# Altium schematic symbol library RT1052_EVK_Mini.SCHLIB: 31 symbols
Pins are listed as number, name and electrical type; pins without a type are passive.

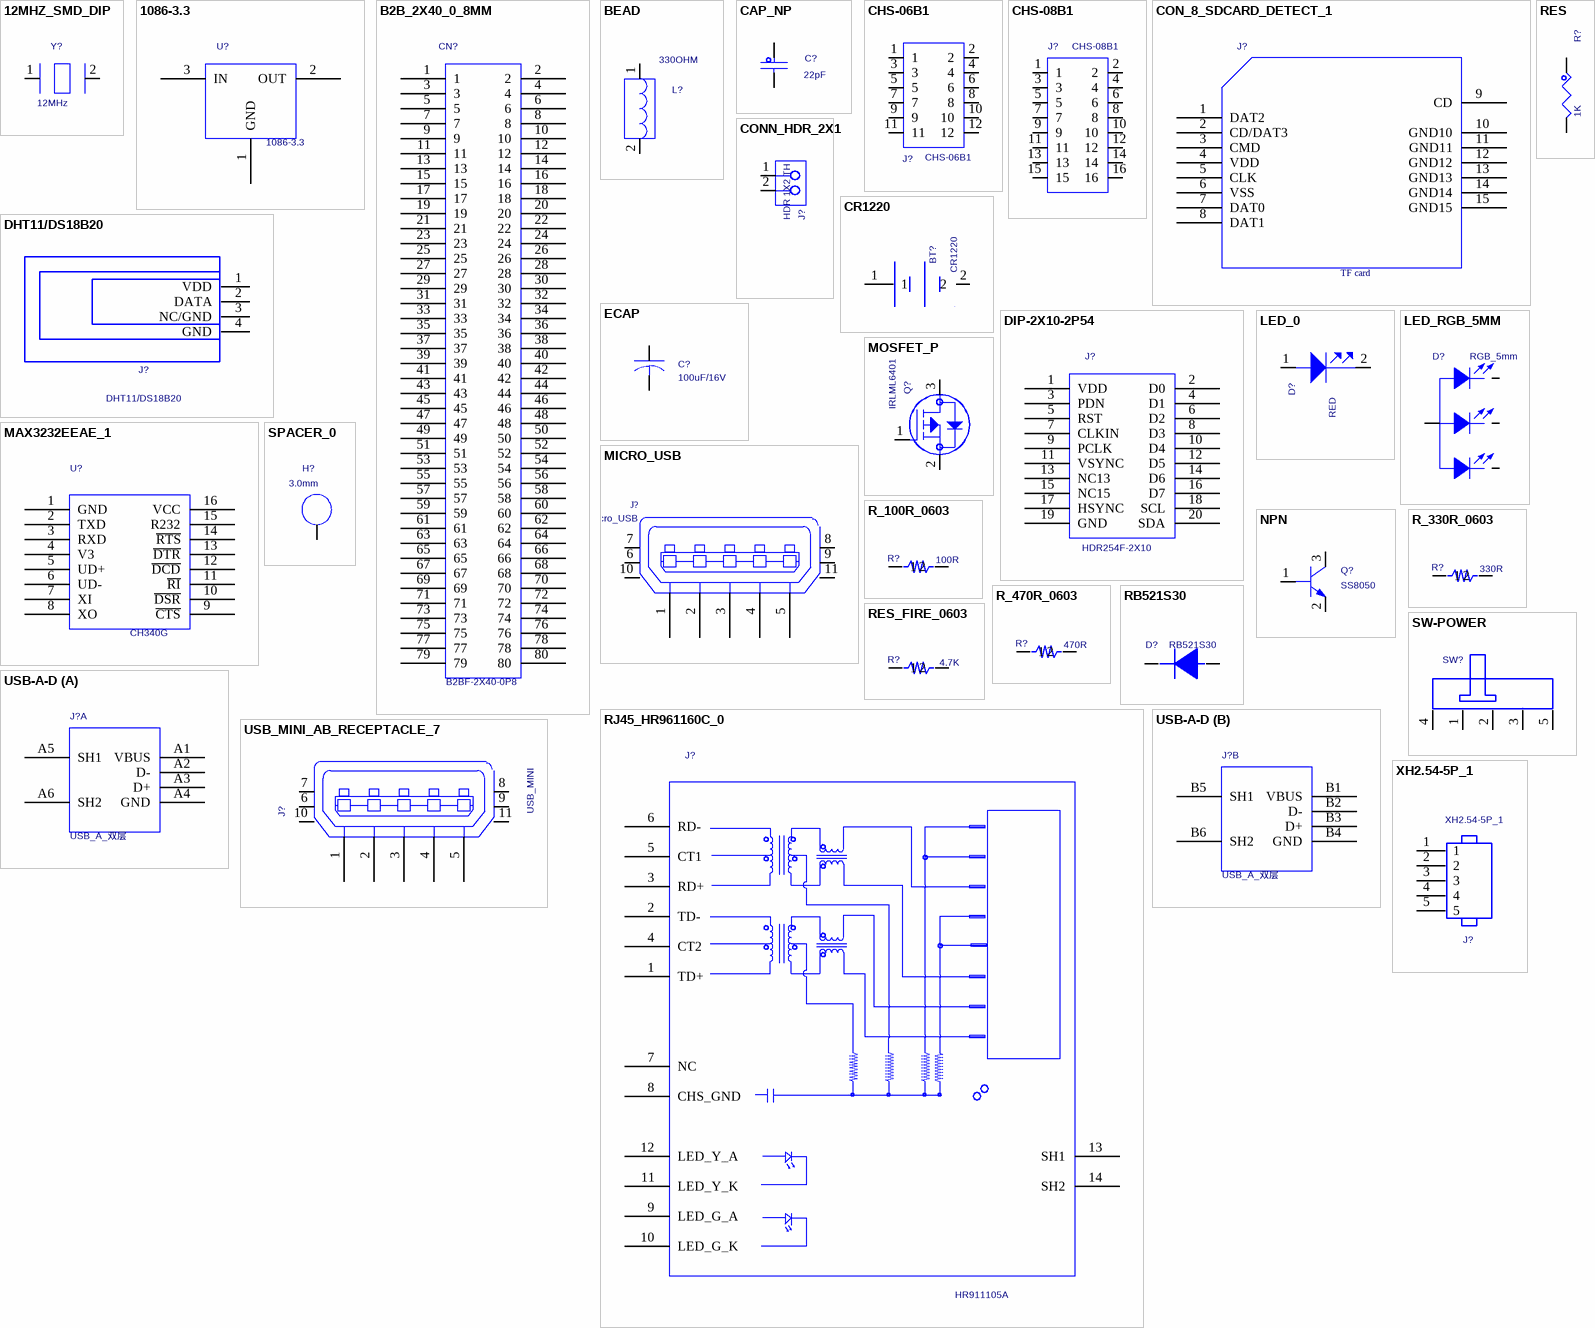
[diagram p0: symbols 12MHZ_SMD_DIP to XH2.54-5P_1]

## 12MHZ_SMD_DIP
designator Y?  value 12MHz  (hidden comment: 12MHZ_SMD_DIP)
PCB DECAL: XTAL_DIP_1; Source_Path: H:\NXP_RT1050\SCH\IMXRT1052_MB.DSN
footprint XTAL_DIP_1
pins: 1, 2

## 1086-3.3
designator U?
PCB DECAL: TO252-2; Source_Path: H:\NXP_RT1050\SCH\SCHLIB\YHSCHLIB.OLB; Value: 1086-3.3
footprint TO252-2
pins: 1 GND, 2 OUT, 3 IN

## B2B_2X40_0_8MM
designator CN?  value B2BF-2X40-0P8  (hidden comment: B2B_2X40_0_8MM)
Source_Path: H:\NXP_RT1050\SCH\SCHLIB\YHSCHLIB.OLB; PCB DECAL: B2BF-2X40-0P8
footprint B2BF-2X40-0P8
pins: 1, 2, 3, 4, 5, 6, 7, 8, 9, 10, 11, 12, 13, 14, 15, 16, 17, 18, 19, 20, 21, 22, 23, 24, 25, 26, 27, 28, 29, 30, 31, 32, 33, 34, 35, 36, 37, 38, 39, 40, 41, 42, 43, 44, 45, 46, 47, 48, 49, 50, 51, 52, 53, 54, 55, 56, 57, 58, 59, 60, 61, 62, 63, 64, 65, 66, 67, 68, 69, 70, 71, 72, 73, 74, 75, 76, 77, 78, 79, 80

## BEAD
designator L?  value 330OHM  (hidden comment: BEAD)
IND FER BEAD 330OHM@100MHZ 1.7A 0603; PART_TYPE: FERRITE\BEAD; PCB DECAL: L0603; TOL: 25%; CAD_APPROVED: Yes; MFG_PN01: MPZ1608S331A; MFG_NAME01: TDK; AGILE_PN: 180-78156; Source_Path: Q:\ORCADCIS\SYMBOLS\FCL_INDUCTOR.OLB; CLASS: DISCRETE; HEIGHT: 0.95MM; ROHS: Yes; Tolerance: 25%
footprint L0603
pins: 1, 2

## CAP_NP
designator C?  value 22pF  (hidden comment: CAP_NP)
CAP CER 0.1UF 10V 10% X5R 0402; PCB DECAL: C0603; FPLIST: CC0402_25,CC0402_HD,0402_CC; CAD_APPROVED: Yes; MFG_PN01: C0402C104K8PAC; MFG_NAME01: KEMET; AGILE_PN: 150-75634; Source_Path: Q:\ORCADCIS\SYMBOLS\FCL_CAPACITOR.OLB; CLASS: DISCRETE; VOLTAGE: 10V; HEIGHT: 0.64MM; ROHS: Yes; Tolerance: 10%
footprint C0603
pins: 1, 2

## CHS-06B1
designator J?
Source_Path: H:\NXP_RT1050\SCH\IMXRT1052_MB.DSN; PCB DECAL: CHS-06B1; Value: CHS-06B1
footprint CHS-06B1
pins: 1, 2, 3, 4, 5, 6, 7, 8, 9, 10, 11, 12

## CHS-08B1
designator J?
Source_Path: H:\NXP_RT1050\SCH\IMXRT1052_MB.DSN; PCB DECAL: CHS-08B1; Value: CHS-08B1
footprint CHS-08B1
pins: 1, 2, 3, 4, 5, 6, 7, 8, 9, 10, 11, 12, 13, 14, 15, 16

## CON_8_SDCARD_DETECT_1
designator J?  value TF card  (hidden comment: CON_8_SDCARD_DETECT_1)
CON 8 SKT SD/MMC PUSH-PUSH RA SMT 1.1MM SP 83H AU; AGILE_PN: 211-80105; MFG_NAME01: ANYTRONIC CORPORATION LIMITED; MFG_PN01: 95060030-14RRF; CAD_APPROVED: Yes; PCB DECAL: TFCARD; Source_Path: H:\NXP_RT1050\SCH\IMXRT1052_MB.DSN; CLASS: IO; ROHS: Yes; HEIGHT: 2.1 MM
footprint TFCARD
pins: 1 DAT2, 2 CD/DAT3, 3 CMD, 4 VDD (power), 5 CLK, 6 VSS (power), 7 DAT0, 8 DAT1, 9 CD, 10 GND10, 11 GND11, 12 GND12, 13 GND13, 14 GND14, 15 GND15

## CONN_HDR_2X1
designator J?  value HDR 1X2 TH  (hidden comment: CONN_HDR_2X1)
HDR 1X2 TH 100MIL SP 339H AU 98L; PCB DECAL: HDR254M-2X1; CAD_APPROVED: YES; MFG_PN01: TSW-102-07-G-S; MFG_NAME01: SAMTEC; AGILE_PN: 210-75439; Source_Path: Q:\ORCADCIS\SYMBOLS\FCL_CONNECTOR.OLB; CLASS: IO; HEIGHT: 8.71 MM; ROHS: Yes
footprint HDR254M-2X1
pins: 1, 2

## CR1220
designator BT?
PCB DECAL: BATERY
footprint BATERY
pins: 1, 2

## DHT11/DS18B20
designator J?
Manufacture 1 P/N: DHT11/DS1302; PCB DECAL: HDR1X4
footprint HDR1X4
pins: 1 VDD, 2 DATA, 3 NC/GND, 4 GND

## DIP-2X10-2P54
designator J?  value HDR254F-2X10  (hidden comment: DIP-2X10-2P54)
Source_Path: H:\NXP_RT1050\SCH\SCHLIB\YHSCHLIB.OLB; PCB DECAL: HDR254F-2X10
footprint HDR254F-2X10
pins: 1 VDD, 2 D0, 3 PDN, 4 D1, 5 RST, 6 D2, 7 CLKIN, 8 D3, 9 PCLK, 10 D4, 11 VSYNC, 12 D5, 13 NC13, 14 D6, 15 NC15, 16 D7, 17 HSYNC, 18 SCL, 19 GND, 20 SDA

## ECAP
designator C?  value 100uF/16V  (hidden comment: ECAP)
PCB DECAL: EC6P3_DIP; Source_Path: D:\01_LSI_PROJECT\C100\00.SMDK俺惯\SCHEMATICS\C100\C100_CPU.OLB
footprint EC6P3_DIP
pins: 1, 2

## LED_0
designator D?  value RED  (hidden comment: LED_0)
LED GRN SGL 25MA 0603; PCB DECAL: LED0603; CAD_APPROVED: Yes; MFG_PN01: KPT-1608SGC; MFG_NAME01: KINGBRIGHT; AGILE_PN: 370-76549; Source_Path: H:\NXP_RT1050\SCH\IMXRT1052_CORE\CORE\IMXRT1052_1207.DSN; CLASS: IC; HEIGHT: 0.85MM; ROHS: Yes
footprint LED0603
pins: 1 ANODE, 2 CATHODE

## LED_RGB_5MM
designator D?  value RGB_5mm  (hidden comment: LED_RGB_5MM)
RGB; PCB DECAL: LED_RGB_5MM
footprint LED_RGB_5MM
pins: 1 G, 2 G, 3 R, 4 R

## MAX3232EEAE_1
designator U?  value CH340G  (hidden comment: MAX3232EEAE_1)
PCB DECAL: SOIC16; Source_Path: H:\NXP_RT1050\SCH\IMXRT1052_MB.DSN
footprint SOIC16
pins: 1 GND, 2 TXD, 3 RXD, 4 V3, 5 UD+, 6 UD-, 7 XI, 8 XO, 9 ~{CTS}, 10 ~{DSR}, 11 ~{RI}, 12 ~{DCD}, 13 ~{DTR}, 14 ~{RTS}, 15 R232, 16 VCC (power)

## MICRO_USB
designator J?
CON 5 USB MICRO_AB RA SKT SMT 0.65MM SP 110H AU; PCB DECAL: MICRO_USB_5S; AGILE_PN: 211-80104; MFG_NAME01: ANYTRONIC CORPORATION LIMITED; MFG_PN01: 23970101#LCP-58LF; Temp_Range: -55&#8451; to 105&#8451;; CAD_APPROVED: Yes; Source_Path: H:\NXP_RT1050\SCH\IMXRT1052_MB_MINI.DSN; CLASS: IO; ROHS: Yes; HEIGHT: 2.8MM; Value: Micro_USB
footprint MICRO_USB_5S
pins: 1 P1, 2 P2, 3 P3, 4 P4, 5 P5, 6 SHLD3, 7 SHLD1, 8 SHLD2, 9 SHLD4, 10 H1, 11 H2

## MOSFET_P
designator Q?  value IRLML6401  (hidden comment: MOSFET_P)
TRAN PMOS PWR 12V 4.3A SOT23; CAD_APPROVED: Yes; MFG_PN01: IRLML6401TRPBF; MFG_NAME01: INTERNATIONAL RECTIFIER; AGILE_PN: 480-77718; Source_Path: Q:\ORCADCIS\SYMBOLS\FCL_SEMICONDUCTOR.OLB; CLASS: IC; HEIGHT: 1.12MM; ROHS: Yes; PCB DECAL: SOT23
footprint SOT23
pins: 1 GATE, 2 SOURCE, 3 DRAIN

## NPN
designator Q?  value SS8050  (hidden comment: NPN)
TRAN NPN GEN 0.5A 45V AEC-Q101 SOT23; AGILE_PN: 480-78842; MFG_NAME01: NEXPERIA; MFG_PN01: BC817,215; CAD_APPROVED: Yes; Source_Path: Q:\ORCADCIS\SYMBOLS\FCL_SEMICONDUCTOR.OLB; CLASS: IC; ROHS: Yes; HEIGHT: 1.1 MM; PCB DECAL: SOT23
footprint SOT23
pins: 1 BASE, 2 EMITTER, 3 COLLECTOR

## R_100R_0603
designator R?  value 100R  (hidden comment: R_100R_0603)
PCB DECAL: R0603
footprint R0603
pins: 1, 2

## R_330R_0603
designator R?  value 330R  (hidden comment: R_330R_0603)
PCB DECAL: R0603
footprint R0603
pins: 1, 2

## R_470R_0603
designator R?  value 470R  (hidden comment: R_470R_0603)
PCB DECAL: R0603
footprint R0603
pins: 1, 2

## RB521S30
designator D?
PCB DECAL: SOD-523; Value: RB521S30
footprint SOD-523
pins: 1 +, 2 -

## RES
designator R?  value 1K  (hidden comment: RES)
RES MF ZERO OHM 1/16W 5% 0402; PCB DECAL: R0603; FPLIST: RC0402_25,RC0402_HD,RC0402_X2,0402_CC; CAD_APPROVED: Yes; MFG_PN01: MCR01MZPJ000; MFG_NAME01: ROHM; AGILE_PN: 470-75394; Source_Path: Q:\ORCADCIS\SYMBOLS\FCL_RESISTOR.OLB; CLASS: DISCRETE; ROHS: Yes; Tolerance: 5%; HEIGHT: 0.45 MM
footprint R0603
pins: 1, 2

## RES_FIRE_0603
designator R?  value 4.7K  (hidden comment: RES_FIRE_0603)
PCB DECAL: R0603
footprint R0603
pins: 1, 2

## RJ45_HR961160C_0
designator J?  value HR911105A  (hidden comment: RJ45_HR961160C_0)
CON 12 RJ45 SHLD RA SM 1.02MM SP 625H --; AGILE_PN: 211-79967; MFG_NAME01: HanRun Electronics Co., Ltd; CAD_APPROVED: Yes; Source_Path: H:\NXP_RT1050\SCH\IMXRT1052_MB.DSN; CLASS: IO; PCB DECAL: RJ45; MFG_PN01: HR961160C; ROHS: Yes; HEIGHT: 15.88 MM
footprint RJ45
pins: 1 TD+, 2 TD-, 3 RD+, 4 CT2, 5 CT1, 6 RD-, 7 NC, 8 CHS_GND, 9 LED_G_A, 10 LED_G_K, 11 LED_Y_K, 12 LED_Y_A, 13 SH1, 14 SH2

## SPACER_0
designator H?  value 3.0mm  (hidden comment: SPACER_0)
FASTENER, STANDOFF 4.5MMX3.53XM3.0X0.5 ROUND THR .635"L BRASS; PCB DECAL: T3; AGILE_PN: 280-76498; MFG_NAME01: UNICORP; MFG_PN01: MSS251-R-1-A-16; ASSY_OPT: DNP; CAD_APPROVED: Yes; Source_Path: H:\NXP_RT1050\SCH\IMXRT1052.DSN; CLASS: IC; ROHS: Yes; HEIGHT: 16.13MM
footprint T3
pins: 1 NC_1

## SW-POWER
designator SW?  (value not drawn)
SW-5; PCB DECAL: SW13_6; Manufacturer #1 PN: SW-5
footprint SW13_6
pins: 1, 2, 3, 4, 5

## USB-A-D
designator J?  value USB_A_双层  (hidden comment: USB-A-D)
PCB DECAL: USB-A-D
footprint USB-A-D
part A pins: A1 VBUS, A2 D-, A3 D+, A4 GND, A5 SH1, A6 SH2
part B pins: B1 VBUS, B2 D-, B3 D+, B4 GND, B5 SH1, B6 SH2

## USB_MINI_AB_RECEPTACLE_7
designator J?  value USB_MINI  (hidden comment: USB_MINI_AB_RECEPTACLE_7)
CON 5 USB MICRO_AB RA SKT SMT 0.65MM SP 110H AU; PCB DECAL: MINI_USB_5S; CAD_APPROVED: Yes; Temp_Range: -55&#8451; to 105&#8451;; MFG_PN01: 23970101#LCP-58LF; MFG_NAME01: ANYTRONIC CORPORATION LIMITED; AGILE_PN: 211-80104; Source_Path: H:\NXP_RT1050\SCH\IMXRT1052_MB_MINI.DSN; CLASS: IO; HEIGHT: 2.8MM; ROHS: Yes
footprint MINI_USB_5S
pins: 1 P1, 2 P2, 3 P3, 4 P4, 5 P5, 6 SHLD3, 7 SHLD1, 8 SHLD2, 9 SHLD4, 10 H1, 11 H2

## XH2.54-5P_1
designator J?
PCB DECAL: XH2.54-5P_1; Value: XH2.54-5P
footprint XH2.54-5P_1
pins: 1, 2, 3, 4, 5